# Altium schematic symbol library 3314J-1-103E.Schlib: 1 symbol
Pins are listed as number, name and electrical type; pins without a type are passive.

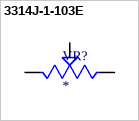
[diagram p0: symbol 3314J-1-103E]

## 3314J-1-103E
designator VR?
Trimmer, Cermet, Rest 10 Kilohms, SMD, 1 Turn, Pwr-Rtg 0.25W | Bourns 3314J-1-103E
pins: 1 CCW, 2 WIPER, 3 CW